# Altium footprint library SBComponentsFootprints.PcbLib: 38 footprints (part 2 of 3)
Each footprint in its own frame and in the unit in brackets; x right, y up, seen from the top. Pads: shape width x height; smd on the part's side, far side on the other; paste and mask are expansions set on the pad; w line width, h text height; cw(c..) or ccw(c..) is an arc to the next point about the centre after c.
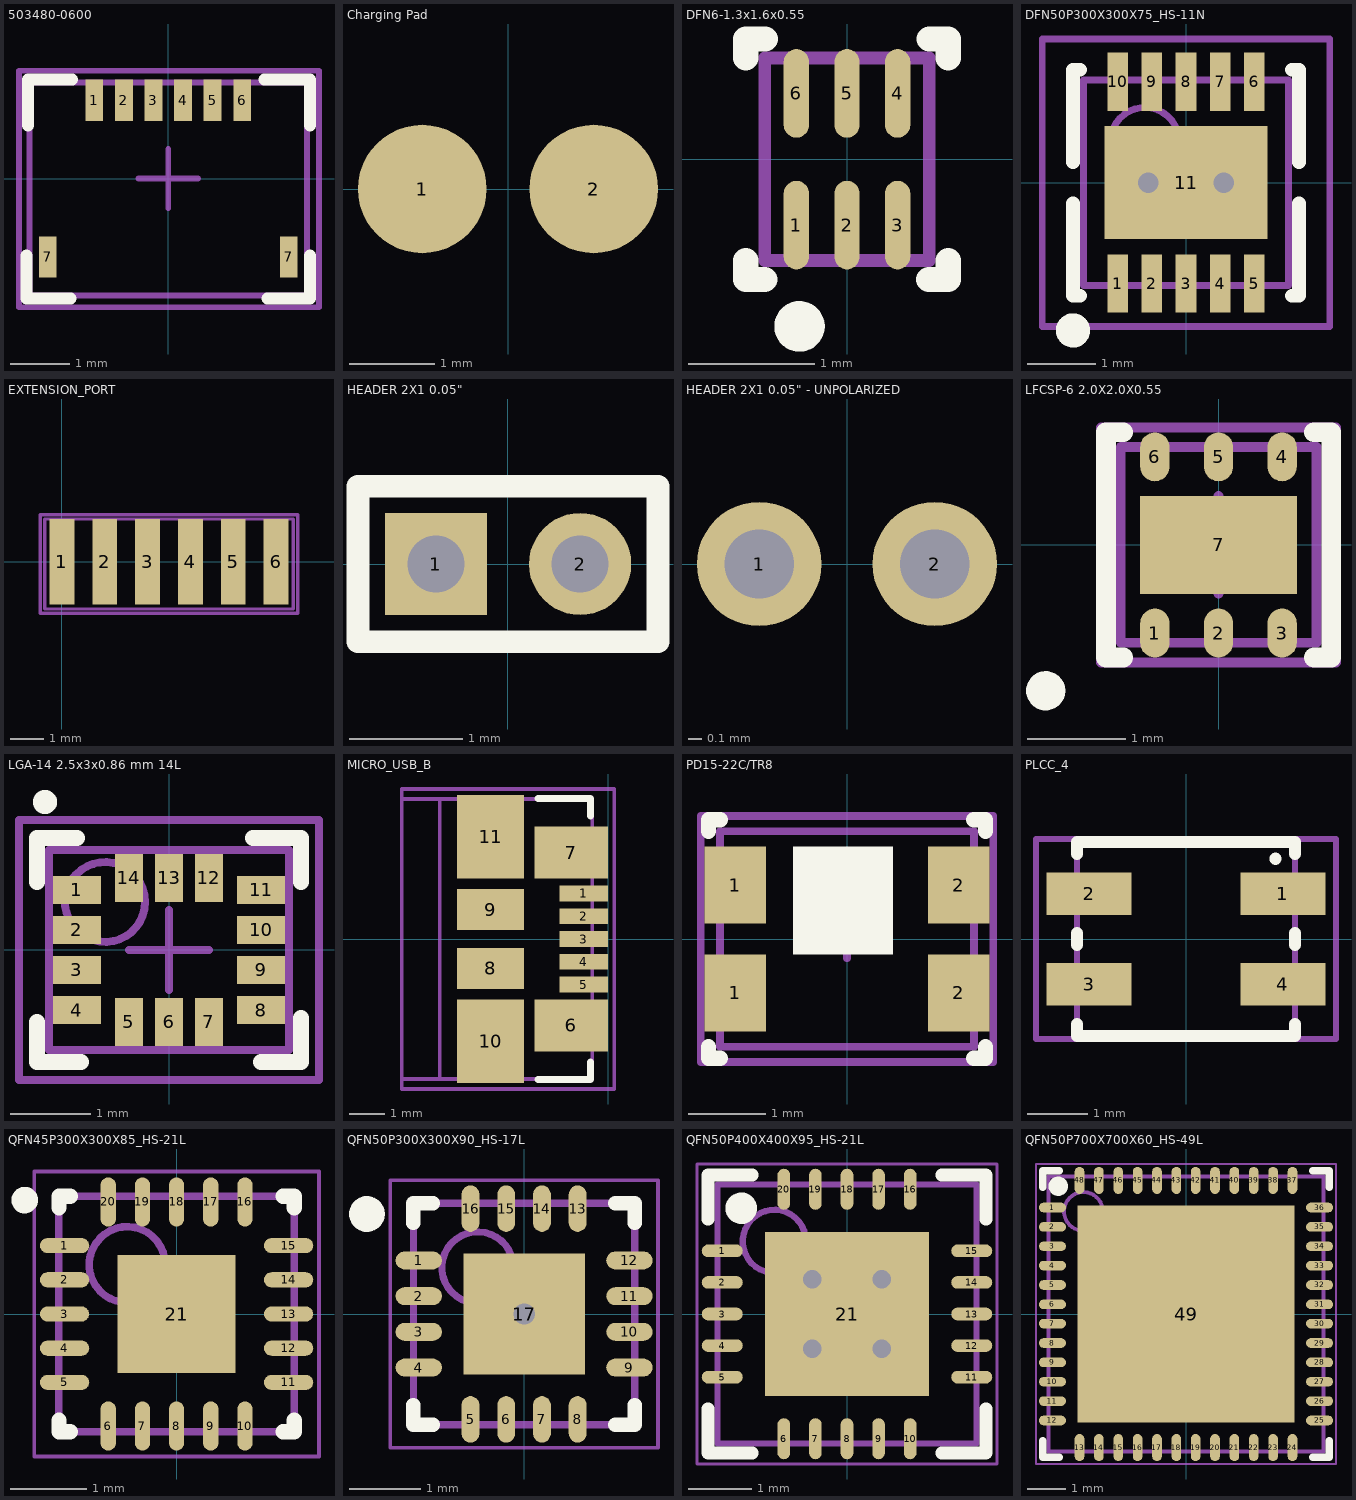
[diagram p1: the footprints below, top view; thin cyan lines are the x and y axes]

## 503480-0600 [mm]
height 1
pads (8):
  rect 0.3x0.7 smd: 1(-1.25,1.325) 2(-0.75,1.325) 3(-0.25,1.325) 4(0.25,1.325) 5(0.75,1.325) 6(1.25,1.325) 7(-2.04,-1.325) 7(2.04,-1.325)
Top Overlay:
  lines w0.2: -2.4,-1.3 -2.4,-2.025 -1.65,-2.025 ; -2.375,0.9 -2.375,1.675 -1.625,1.675 ; 1.625,1.675 2.4,1.675 2.4,0.9 ; 1.675,-2.025 2.4,-2.025 2.4,-1.3
Mechanical 1:
  lines w0.1: -2.35,-1.975 -2.35,1.625 2.35,1.625 2.35,-1.975 -2.35,-1.975
Mechanical 15:
  lines w0.1: -0.5,0 0.5,0 ; 0,-0.5 0,0.5 ; -2.525,-2.175 -2.525,1.825 2.55,1.825 2.55,-2.175 -2.525,-2.175
3D body: height 1.89, standoff -0.01, extent -2.35,-1.975 2.35,1.625

## Charging Pad [mm]
pads (2):
  round 1.5 smd paste-5: 1(-1,0) 2(1,0)
3D body: height 0, standoff 0, extent 0.252,-0.749 1.746,0.749
3D body: height 0, standoff 0, extent -1.744,-0.749 -0.25,0.749

## DFN6-1.3x1.6x0.55 [mm]
height 0.55
pads (6):
  oval 0.2x0.7 smd: 1(-0.4,-0.52) 2(0,-0.52) 3(0.4,-0.52) 4(0.4,0.52) 5(0,0.52) 6(-0.4,0.52)
Top Overlay:
  circle w0.2: c-0.375,-1.32 r0.1
  lines w0.2: -0.8,-0.8 -0.8,-0.95 -0.65,-0.95 ; -0.8,0.8 -0.8,0.95 -0.645,0.95 ; 0.645,-0.95 0.8,-0.95 0.8,-0.8 ; 0.65,0.95 0.8,0.95 0.8,0.8
Mechanical 13:
  lines w0.1: -0.65,-0.8 -0.65,0.8 0.65,0.8 0.65,-0.8 -0.65,-0.8
3D body: height 0.55, standoff 0, extent -0.65,-0.8 0.65,0.8

## DFN50P300X300X75_HS-11N [mm]
pads (11):
  rect 0.3x0.85 smd: 1(-1,-1.475) 2(-0.5,-1.475) 3(0,-1.475) 4(0.5,-1.475) 5(1,-1.475) 6(1,1.475) 7(0.5,1.475) 8(0,1.475) 9(-0.5,1.475) 10(-1,1.475)
  rect 2.38x1.65 smd: 11(0,0)
via 0.55,0 diameter 0.6 hole 0.3
via -0.55,0 diameter 0.6 hole 0.3
Top Overlay:
  circle w0.25: c-1.651,-2.159 r0.125
  lines w0.2: -1.65,-0.3 -1.65,-1.65 -1.55,-1.65 ; -1.65,0.3 -1.65,1.65 -1.55,1.65 ; 1.55,-1.65 1.65,-1.65 1.65,-0.3 ; 1.55,1.65 1.65,1.65 1.65,0.3
Mechanical 13:
  circle w0.1: c-0.6,0.6 r0.5
  lines w0.1: -1.5,-1.5 1.5,-1.5 1.5,1.5 -1.5,1.5 -1.5,-1.5
Mechanical 15:
  lines w0.1: -0.5,0 0.5,0 ; 0,-0.5 0,0.5 ; -2.1,-2.1 2.1,-2.1 2.1,2.1 -2.1,2.1 -2.1,-2.1
3D body: height 0.75, standoff 0, extent -1.5,-1.5 1.5,1.5

## EXTENSION_PORT [mil]
pads (6):
  rect 29x100 smd paste-78.74: 1(0,0) 2(50,0) 3(100,0) 4(150,0) 5(200,0) 6(250,0)
Mechanical 13:
  lines w3.94: -20,-55 270,-55 270,50 -20,50 -20,-55
Mechanical 15:
  lines w3.94: -25,-60 -25,55 275,55 275,-60 -25,-60
3D body: height 0.04, standoff 0, extent -15,-45 265,45

## HEADER 2X1 0.05" [mm]
pads (2):
  rect 0.9x0.9 hole 0.5: 1(-0.635,0)
  round 0.9 hole 0.5: 2(0.635,0)
Top Overlay:
  lines w0.2: -1.321,-0.686 -1.321,0.686 1.321,0.686 1.321,-0.686 -1.321,-0.686
3D body: height 0.01, standoff 0, extent -1.25,-0.6 1.25,0.6

## HEADER 2X1 0.05" - UNPOLARIZED [mm]
pads (2):
  round 0.9 hole 0.5: 1(-0.635,0) 2(0.635,0)
3D body: height 0.01, standoff 0, extent -1.25,-0.6 1.25,0.6

## LFCSP-6 2.0X2.0X0.55 [mm] ". 6-Lead Lead Frame Chip Scale Package [LFCSP_UD]  2.00 mm× 2.00 mm Body, Ultra Thin, Dual Lead  (CP-6-3)"
height 0.55
pads (7):
  oval 0.3x0.5 smd: 1(-0.65,-0.9) 2(0,-0.9) 3(0.65,-0.9) 4(0.65,0.9) 5(0,0.9) 6(-0.65,0.9)
  rect 1.6x1 smd: 7(0,0)
Top Overlay:
  circle w0.2: c-1.765,-1.49 r0.1
  lines w0.2: -1.15,-1.15 -0.975,-1.15 ; -1.15,-1.125 -1.15,1.15 -0.975,1.15 ; 0.975,-1.15 1.15,-1.15 1.15,1.125 ; 0.975,1.15 1.15,1.15
Mechanical 13:
  lines w0.1: -1,-1 1,-1 1,1 -1,1 -1,-1
Mechanical 15:
  lines w0.1: -0.5,0 0.5,0 ; 0,-0.5 0,0.5 ; -1.2,-1.2 1.2,-1.2 1.2,1.2 -1.2,1.2 -1.2,-1.2
3D body: height 0.6, standoff 0.05, extent -1,-1 1,1

## LGA-14 2.5x3x0.86 mm 14L [mm] "LGA, 14-Leads, Body 3.00x2.50mm, Pitch 0.50mm, IPC High Density"
height 0.86
pads (14):
  rect 0.6x0.35 smd: 1(-1.15,0.75) 2(-1.15,0.25) 3(-1.15,-0.25) 4(-1.15,-0.75) 8(1.15,-0.75) 9(1.15,-0.25) 10(1.15,0.25) 11(1.15,0.75)
  rect 0.35x0.6 smd: 5(-0.5,-0.9) 6(0,-0.9) 7(0.5,-0.9) 12(0.5,0.9) 13(0,0.9) 14(-0.5,0.9)
Top Overlay:
  circle w0.2: c-1.55,1.85 r0.05
  lines w0.2: -1.65,-0.9 -1.65,-1.4 -1.1,-1.4 ; -1.65,0.85 -1.65,1.4 -1.15,1.4 ; 1.05,1.4 1.65,1.4 1.65,0.85 ; 1.15,-1.4 1.65,-1.4 1.65,-0.85
Mechanical 13:
  circle w0.1: c-0.8,0.6 r0.5
  lines w0.1: -1.5,-1.25 -1.5,1.25 1.5,1.25 1.5,-1.25 -1.5,-1.25
Mechanical 15:
  lines w0.1: -0.5,0 0.5,0 ; 0,-0.5 0,0.5 ; -1.875,-1.625 1.875,-1.625 1.875,1.625 -1.875,1.625 -1.875,-1.625
3D body: height 0.86, standoff 0.13, extent -1.5,-1.25 1.5,1.25

## MICRO_USB_B [mm]
pads (11):
  rect 1.38x0.45 smd: 1(-0.69,1.3) 2(-0.69,0.65) 3(-0.69,0) 4(-0.69,-0.65) 5(-0.69,-1.3)
  rect 2.1x1.475 smd: 6(-1.05,-2.462) 7(-1.05,2.462)
  rect 1.9x1.175 smd: 8(-3.35,-0.837) 9(-3.35,0.837)
  rect 1.9x2.375 smd: 10(-3.35,-2.913) 11(-3.35,2.913)
Top Overlay:
  lines w0.2: -2,-4 -0.5,-4 -0.5,-3.5 ; -2,4 -0.5,4 -0.5,3.5
Mechanical 1:
  lines w0.1: -5.88,3.99 -5.88,-3.99 -0.45,-3.99 ; -4.8,-4 -4.8,4
Mechanical 13:
  lines w0.1: -5.88,3.99 -0.45,3.99 -0.45,-3.99
Mechanical 15:
  lines w0.1: -5.875,-4.275 -5.875,4.275 0.175,4.275 0.175,-4.275 -5.875,-4.275
3D body: height 2.69, standoff -0.25, extent -5.88,-3.99 -0.45,3.99

## PD15-22C/TR8 [mm] "Silicon PIN Photodiode"
height 1.1
pads (4):
  rect 0.8x1 smd: 1(-1.45,-0.7) 1(-1.45,0.7) 2(1.45,-0.7) 2(1.45,0.7)
Top Overlay:
  rectangle: -0.7,-0.2 0.6,1.2
  lines w0.2: -1.8,-1.4 -1.8,-1.55 -1.65,-1.55 ; -1.8,1.4 -1.8,1.55 -1.65,1.55 ; 1.65,-1.55 1.8,-1.55 1.8,-1.4 ; 1.65,1.55 1.8,1.55 1.8,1.4
Mechanical 1:
  lines w0.1: -1.65,-1.4 1.65,-1.4 1.65,1.4 -1.65,1.4 -1.65,-1.4
Mechanical 15:
  lines w0.1: -0.25,0 0.25,0 ; 0,-0.25 0,0.25 ; -1.9,-1.6 1.9,-1.6 1.9,1.6 -1.9,1.6 -1.9,-1.6
3D body: height 1.1, standoff 0, extent -1.65,-1.4 1.65,1.4

## PLCC_4 [mm]
height 1.9
pads (4):
  rect 1.4x0.7 smd: 1(1.6,0.75) 2(-1.6,0.75) 3(-1.6,-0.75) 4(1.6,-0.75)
Top Overlay:
  circle w0.2: c1.475,1.325 r0.001
  lines w0.2: -1.8,-1.4 -1.8,-1.6 1.8,-1.6 1.8,-1.4 ; -1.8,-0.1 -1.8,0.1 ; -1.8,1.4 -1.8,1.6 1.8,1.6 1.8,1.4 ; 1.8,-0.1 1.8,0.1
Mechanical 1:
  lines w0.1: -1.8,-1.6 1.8,-1.6 1.8,1.6 -1.8,1.6 -1.8,-1.6
Mechanical 15:
  lines w0.1: -2.475,-1.65 2.475,-1.65 2.475,1.65 -2.475,1.65 -2.475,-1.65
3D body: height 1.9, standoff 0, extent -1.8,-1.6 1.8,1.6

## QFN45P300X300X85_HS-21L [mm] "QFN, 20-Leads, Body 3.00x3.00mm, Pitch 0.45mm, Thermal Pad 1.55x1.55mm, IPC High Density"
height 0.85
pads (21):
  oval 0.65x0.2 smd: 1(-1.475,0.9) 2(-1.475,0.45) 3(-1.475,0) 4(-1.475,-0.45) 5(-1.475,-0.9) 11(1.475,-0.9) 12(1.475,-0.45) 13(1.475,0) 14(1.475,0.45) 15(1.475,0.9)
  oval 0.2x0.65 smd: 6(-0.9,-1.475) 7(-0.45,-1.475) 8(0,-1.475) 9(0.45,-1.475) 10(0.9,-1.475) 16(0.9,1.475) 17(0.45,1.475) 18(0,1.475) 19(-0.45,1.475) 20(-0.9,1.475)
  rect 1.55x1.55 smd: 21(0,0)
Top Overlay:
  circle w0.2: c-2,1.5 r0.075
  lines w0.2: -1.55,-1.4 -1.55,-1.55 -1.4,-1.55 ; -1.55,1.4 -1.55,1.55 -1.4,1.55 ; 1.4,-1.55 1.55,-1.55 1.55,-1.4 ; 1.4,1.55 1.55,1.55 1.55,1.4
Mechanical 13:
  circle w0.1: c-0.65,0.65 r0.5
  lines w0.1: -1.55,-1.55 -1.55,1.55 1.55,1.55 1.55,-1.55 -1.55,-1.55
Mechanical 15:
  lines w0.05: -1.875,-1.875 -1.875,1.875 1.875,1.875 1.875,-1.875 -1.875,-1.875
  lines w0.1: -0.5,0 0.5,0 ; 0,-0.5 0,0.5
3D body: height 0.85, standoff 0.05, extent -1.55,-1.55 1.55,1.55

## QFN50P300X300X90_HS-17L [mm] "QFN, 16-Leads, Body 3,00x3,00mm, Pitch 0,50mm, Thermal Pad 1,70x1,70mm, IPC High Density"
height 0.9
pads (17):
  oval 0.65x0.25 smd: 1(-1.475,0.75) 2(-1.475,0.25) 3(-1.475,-0.25) 4(-1.475,-0.75) 9(1.475,-0.75) 10(1.475,-0.25) 11(1.475,0.25) 12(1.475,0.75)
  oval 0.25x0.65 smd: 5(-0.75,-1.475) 6(-0.25,-1.475) 7(0.25,-1.475) 8(0.75,-1.475) 13(0.75,1.475) 14(0.25,1.475) 15(-0.25,1.475) 16(-0.75,1.475)
  rect 1.7x1.7 smd: 17(0,0)
via 0,0 diameter 0.6 hole 0.3
Top Overlay:
  circle w0.25: c-2.2,1.4 r0.125
  lines w0.2: -1.55,-1.275 -1.55,-1.55 -1.275,-1.55 ; -1.55,1.275 -1.55,1.55 -1.275,1.55 ; 1.275,-1.55 1.55,-1.55 1.55,-1.275 ; 1.275,1.55 1.55,1.55 1.55,1.275
Mechanical 13:
  circle w0.1: c-0.65,0.65 r0.5
  lines w0.1: -1.55,-1.55 1.55,-1.55 1.55,1.55 -1.55,1.55 -1.55,-1.55
Mechanical 15:
  lines w0.05: -1.875,-1.875 1.875,-1.875 1.875,1.875 -1.875,1.875 -1.875,-1.875
  lines w0.1: -0.5,0 0.5,0 ; 0,-0.5 0,0.5
3D body: height 0.9, standoff 0.05, extent -1.55,-1.55 1.55,1.55

## QFN50P400X400X95_HS-21L [mm] "QFN, 20-Leads, Body 4,00x4,00mm, Pitch 0,50mm, Thermal Pad 2,60x2,60mm, IPC High Density"
height 0.95
pads (21):
  oval 0.65x0.2 smd: 1(-1.975,1) 2(-1.975,0.5) 3(-1.975,0) 4(-1.975,-0.5) 5(-1.975,-1) 11(1.975,-1) 12(1.975,-0.5) 13(1.975,0) 14(1.975,0.5) 15(1.975,1)
  oval 0.2x0.65 smd: 6(-1,-1.975) 7(-0.5,-1.975) 8(0,-1.975) 9(0.5,-1.975) 10(1,-1.975) 16(1,1.975) 17(0.5,1.975) 18(0,1.975) 19(-0.5,1.975) 20(-1,1.975)
  rect 2.6x2.6 smd: 21(0,0)
via -0.55,0.55 diameter 0.6 hole 0.3
via 0.55,0.55 diameter 0.6 hole 0.3
via -0.55,-0.55 diameter 0.6 hole 0.3
via 0.55,-0.55 diameter 0.6 hole 0.3
Top Overlay:
  circle w0.25: c-1.675,1.675 r0.125
  lines w0.2: -2.2,-1.5 -2.2,-2.2 -1.5,-2.2 ; -2.2,1.5 -2.2,2.2 -1.5,2.2 ; 1.5,-2.2 2.2,-2.2 2.2,-1.5 ; 1.5,2.2 2.2,2.2 2.2,1.5
Mechanical 13:
  circle w0.1: c-1.15,1.15 r0.5
  lines w0.1: -2.05,-2.05 -2.05,2.05 2.05,2.05 2.05,-2.05 -2.05,-2.05
Mechanical 15:
  lines w0.05: -2.375,-2.375 -2.375,2.375 2.375,2.375 2.375,-2.375 -2.375,-2.375
  lines w0.1: -0.5,0 0.5,0 ; 0,-0.5 0,0.5
3D body: height 0.95, standoff 0.05, extent -2.05,-2.05 2.05,2.05

## QFN50P700X700X60_HS-49L [mm] "QFN, 48-Leads, Body 7,00x7,00mm, Pitch 0,50mm, Thermal Pad 5,60x5,60mm, IPC High Density"
height 0.6
pads (49):
  oval 0.7x0.25 smd: 1(-3.45,2.75) 2(-3.45,2.25) 3(-3.45,1.75) 4(-3.45,1.25) 5(-3.45,0.75) 6(-3.45,0.25) 7(-3.45,-0.25) 8(-3.45,-0.75) 9(-3.45,-1.25) 10(-3.45,-1.75) 11(-3.45,-2.25) 12(-3.45,-2.75) 25(3.45,-2.75) 26(3.45,-2.25) 27(3.45,-1.75) 28(3.45,-1.25) 29(3.45,-0.75) 30(3.45,-0.25) 31(3.45,0.25) 32(3.45,0.75) 33(3.45,1.25) 34(3.45,1.75) 35(3.45,2.25) 36(3.45,2.75)
  oval 0.25x0.7 smd: 13(-2.75,-3.45) 14(-2.25,-3.45) 15(-1.75,-3.45) 16(-1.25,-3.45) 17(-0.75,-3.45) 18(-0.25,-3.45) 19(0.25,-3.45) 20(0.75,-3.45) 21(1.25,-3.45) 22(1.75,-3.45) 23(2.25,-3.45) 24(2.75,-3.45) 37(2.75,3.45) 38(2.25,3.45) 39(1.75,3.45) 40(1.25,3.45) 41(0.75,3.45) 42(0.25,3.45) 43(-0.25,3.45) 44(-0.75,3.45) 45(-1.25,3.45) 46(-1.75,3.45) 47(-2.25,3.45) 48(-2.75,3.45)
  rect 5.6x5.6 smd: 49(0,0)
Top Overlay:
  circle w0.25: c-3.3,3.3 r0.125
  lines w0.2: -3.7,-3.275 -3.7,-3.7 -3.275,-3.7 ; -3.7,3.275 -3.7,3.7 -3.275,3.7 ; 3.275,-3.7 3.7,-3.7 3.7,-3.275 ; 3.275,3.7 3.7,3.7 3.7,3.275
Mechanical 13:
  circle w0.1: c-2.65,2.65 r0.5
  lines w0.1: -3.55,-3.55 -3.55,3.55 3.55,3.55 3.55,-3.55 -3.55,-3.55
Mechanical 15:
  lines w0.05: -3.875,-3.875 -3.875,3.875 3.875,3.875 3.875,-3.875 -3.875,-3.875
  lines w0.1: -0.5,0 0.5,0 ; 0,-0.5 0,0.5
3D body: height 0.6, standoff 0.05, extent -3.55,-3.55 3.55,3.55